# Altium integrated library Components - 30.01.23 - 17.48.IntLib: 1 symbol
Pins are listed as number, name and electrical type; pins without a type are passive.

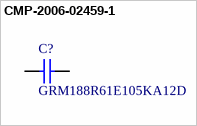
[diagram p0: symbol CMP-2006-02459-1]

## CMP-2006-02459-1
designator C?, comment GRM188R61E105KA12D
Manufacturer: Murata; Part Number: GRM188R61E105KA12D
footprint CAPC1608X90X35ML10T15 (Chip Capacitor, 2-Leads, Body 1.60x0.80mm, IPC Low Density)
footprint CAPC1608X90X35LL10T15 (Chip Capacitor, 2-Leads, Body 1.60x0.80mm, IPC High Density)
footprint CAPC1608X90X35NL10T15 (Chip Capacitor, 2-Leads, Body 1.60x0.80mm, IPC Medium Density)
pins: 1, 2
1 alternate drawing of the same symbol